# Altium footprint library PCC-00324-1_fixed.PcbLib: 1 footprints
Each footprint in its own frame and in the unit in brackets; x right, y up, seen from the top. Pads: shape width x height; smd on the part's side, far side on the other; paste and mask are expansions set on the pad; w line width, h text height; cw(c..) or ccw(c..) is an arc to the next point about the centre after c.
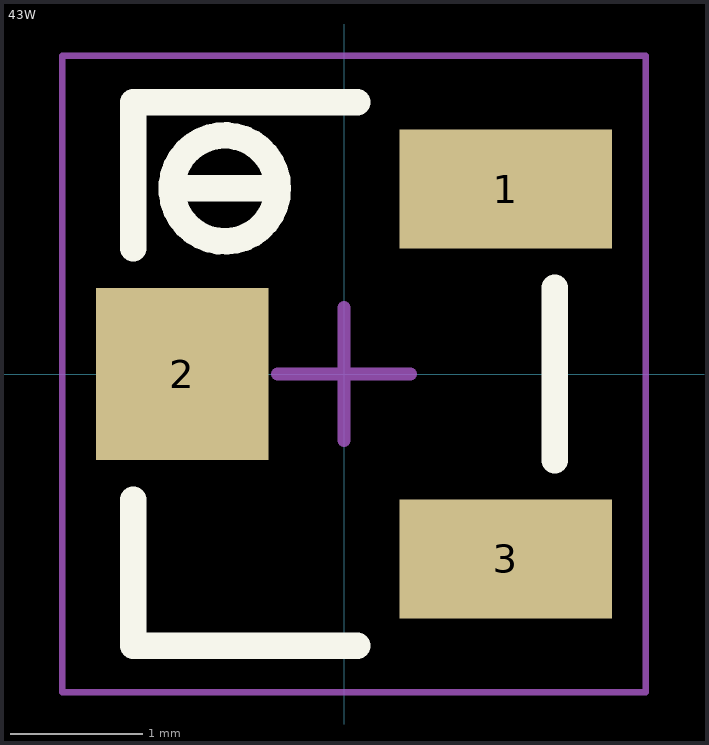
[diagram p0: the footprint, top view; thin cyan lines are the x and y axes]

## 43W [mm] "43W TRIMMER SMD"
height 4.4
pads (3):
  rect 1.6x0.9 smd: 1(1.22,1.395) 3(1.22,-1.395)
  rect 1.3x1.3 smd: 2(-1.22,0)
Top Overlay:
  circle w0.2: c-0.9,1.4 r0.4
  lines w0.2: -1.59,-0.95 -1.59,-2.05 0.1,-2.05 ; -1.59,0.95 -1.59,2.05 0.1,2.05 ; -1.3,1.4 -0.5,1.4 ; 1.59,-0.65 1.59,0.65
Mechanical 15:
  lines w0.05: -2.125,-2.4 2.275,-2.4 2.275,2.4 -2.125,2.4 -2.125,-2.4
  lines w0.1: -0.5,0 0.5,0 ; 0,-0.5 0,0.5
3D body: height 4.4, standoff 0, extent -1.59,-2.05 1.59,2.05